# Altium schematic symbol library ISO-V3.SCHLIB: 118 symbols
Pins are listed as number, name and electrical type; pins without a type are passive.

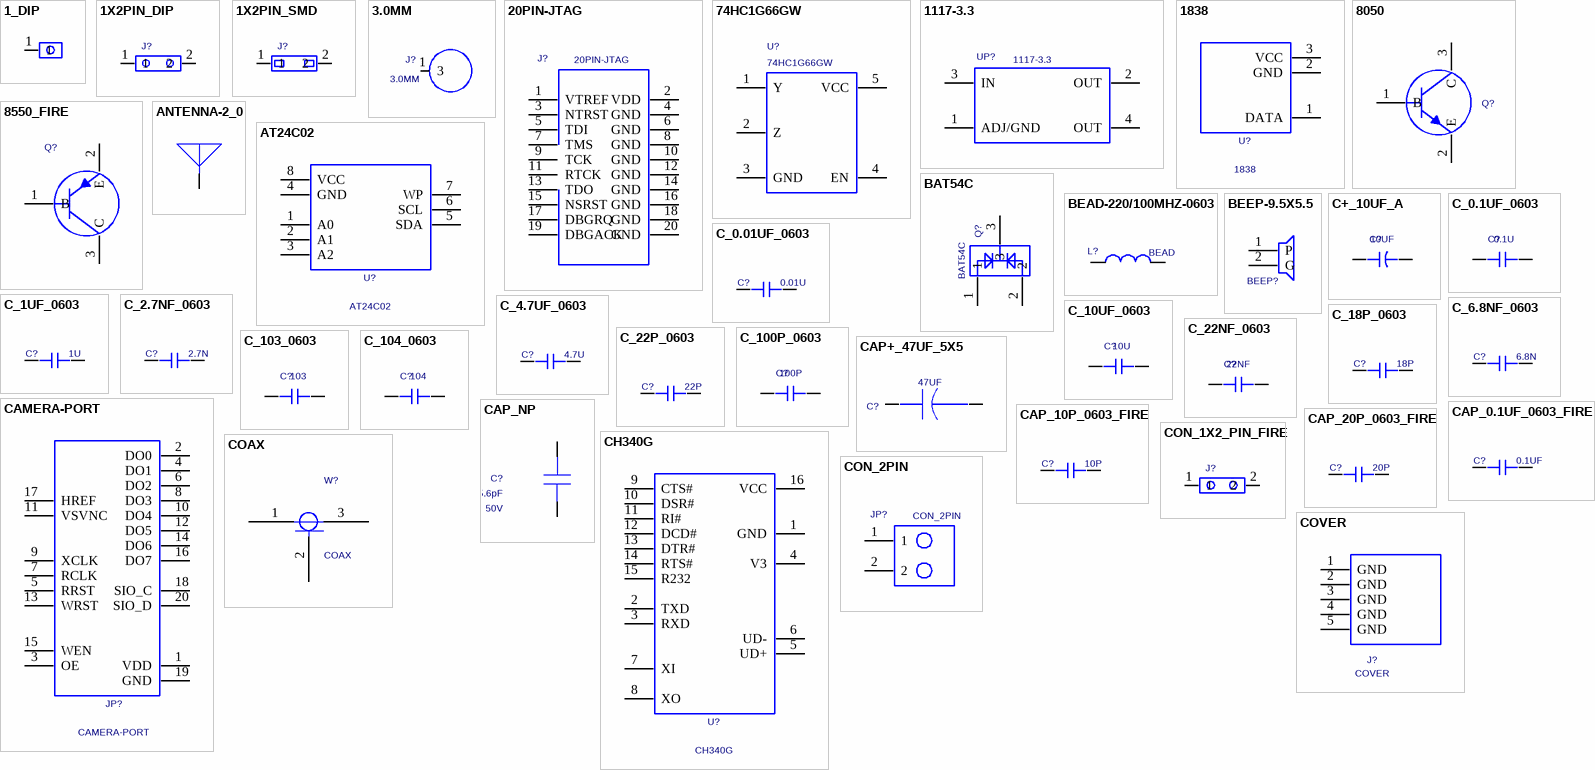
[diagram p0: symbols 1_DIP to COVER]

## 1_DIP
designator J?  (value not drawn)
PCB DECAL: 1_DIP
footprint 1_DIP
pins: 1

## 1X2PIN_DIP
designator J?  (value not drawn)
PCB DECAL: 1X2PIN_DIP
footprint 1X2PIN_DIP
pins: 1, 2

## 1X2PIN_SMD
designator J?  (value not drawn)
PCB DECAL: 1X2PIN_SMD
footprint 1X2PIN_SMD
pins: 1, 2

## 3.0MM
designator J?
PCB DECAL: 3.0MM-5
footprint 3.0MM-5
pins: 1 3

## 20PIN-JTAG
designator J?
20pin JTAG; Manufacturer #1: 20pin JTAG; Manufacturer #1 PN: 20pin JTAG; Value: 20pin JTAG
pins: 1 VTREF, 2 VDD, 3 NTRST, 4 GND, 5 TDI, 6 GND, 7 TMS, 8 GND, 9 TCK, 10 GND, 11 RTCK, 12 GND, 13 TDO, 14 GND, 15 NSRST, 16 GND, 17 DBGRQ, 18 GND, 19 DBGACK, 20 GND

## 74HC1G66GW
designator U?
PCB DECAL: SOT-353
footprint SOT-353
pins: 1 Y, 2 Z, 3 GND, 4 EN, 5 VCC

## 1117-3.3
designator UP?
SOT-223; Manufacturer #1: SPX; Manufacturer #1 PN: 1117-3.3
pins: 1 ADJ/GND, 2 OUT, 3 IN, 4 OUT

## 1838
designator U?
PCB DECAL: HDR1X3
footprint HDR1X3
pins: 1 DATA, 2 GND, 3 VCC

## 8050
designator Q?  (value not drawn)
NPN; PCB DECAL: SOT-23; Manufacturer #2: 8050
footprint SOT-23
pins: 1 B, 2 E, 3 C

## 8550_FIRE
designator Q?  (value not drawn)
NPN; PCB DECAL: SOT-23; Manufacturer #2: 8050
footprint SOT-23
pins: 1 B, 2 E, 3 C

## ANTENNA-2_0
designator U?  (value not drawn)
PCB DECAL: WIFI_ANTENNA; Source_Path: D:\FIRE_LAYOUT\ESP8266.DSN; Value: ANTENNA-2
footprint WIFI_ANTENNA
pins: 1

## AT24C02
designator U?
8 lead ssop,2k/2048bits; Manufacturer #1: ATMEL; Manufacturer #1 PN: AT24C02; Value: 2k/2048bits
pins: 1 A0, 2 A1, 3 A2, 4 GND, 5 SDA, 6 SCL, 7 WP, 8 VCC

## BAT54C
designator Q?
PCB DECAL: SOT-23; Value: BAT54C
footprint SOT-23
pins: 1, 2, 3

## BEAD-220/100MHZ-0603
designator L?  value BEAD  (hidden comment: BEAD-220/100MHZ-0603)
0603,BEAD; PCB DECAL: L0603; Manufacturer #1 PN: BEAD
footprint L0603
pins: 1, 2

## BEEP-9.5X5.5
designator BEEP?  (value not drawn)
PCB DECAL: BEEP-9.5X5.5
footprint BEEP-9.5X5.5
pins: 1 P, 2 G

## C+_10UF_A
designator C?  value 10UF  (hidden comment: C+_10UF_A)
PCB DECAL: AVX_B_3528-21
footprint AVX_B_3528-21
pins: 1 +, 2 -

## C_0.1UF_0603
designator C?  value 0.1U  (hidden comment: C_0.1UF_0603)
PCB DECAL: C_0603
footprint C_0603
pins: 1, 2

## C_0.01UF_0603
designator C?  value 0.01U  (hidden comment: C_0.01UF_0603)
PCB DECAL: C_0603
footprint C_0603
pins: 1, 2

## C_1UF_0603
designator C?  value 1U  (hidden comment: C_1UF_0603)
PCB DECAL: C_0603
footprint C_0603
pins: 1, 2

## C_2.7NF_0603
designator C?  value 2.7N  (hidden comment: C_2.7NF_0603)
PCB DECAL: C_0603
footprint C_0603
pins: 1, 2

## C_4.7UF_0603
designator C?  value 4.7U  (hidden comment: C_4.7UF_0603)
PCB DECAL: C_0603
footprint C_0603
pins: 1, 2

## C_6.8NF_0603
designator C?  value 6.8N  (hidden comment: C_6.8NF_0603)
PCB DECAL: C_0603
footprint C_0603
pins: 1, 2

## C_10UF_0603
designator C?  value 10U  (hidden comment: C_10UF_0603)
PCB DECAL: C_0603
footprint C_0603
pins: 1, 2

## C_18P_0603
designator C?  value 18P  (hidden comment: C_18P_0603)
PCB DECAL: C_0603
footprint C_0603
pins: 1, 2

## C_22NF_0603
designator C?  value 22NF  (hidden comment: C_22NF_0603)
PCB DECAL: C_0603
footprint C_0603
pins: 1, 2

## C_22P_0603
designator C?  value 22P  (hidden comment: C_22P_0603)
PCB DECAL: C_0603
footprint C_0603
pins: 1, 2

## C_100P_0603
designator C?  value 100P  (hidden comment: C_100P_0603)
PCB DECAL: C_0603
footprint C_0603
pins: 1, 2

## C_103_0603
designator C?  value 103  (hidden comment: C_103_0603)
PCB DECAL: C_0603
footprint C_0603
pins: 1, 2

## C_104_0603
designator C?  value 104  (hidden comment: C_104_0603)
PCB DECAL: C_0603
footprint C_0603
pins: 1, 2

## CAMERA-PORT
designator JP?
PCB DECAL: 20PIN_2.54_SMD_BOT; Manufacture 1 P/N: CAMERA-PORT
footprint 20PIN_2.54_SMD_BOT
pins: 1 VDD, 2 DO0, 3 OE, 4 DO1, 5 RRST, 6 DO2, 7 RCLK, 8 DO3, 9 XCLK, 10 DO4, 11 VSVNC, 12 DO5, 13 WRST, 14 DO6, 15 WEN, 16 DO7, 17 HREF, 18 SIO_C, 19 GND, 20 SIO_D

## CAP+_47UF_5X5
designator C?  value 47UF  (hidden comment: CAP+_47UF_5X5)
PCB DECAL: CAP+_47UF_5X5
footprint CAP+_47UF_5X5
pins: 1, 2

## CAP_0.1UF_0603_FIRE
designator C?  value 0.1UF  (hidden comment: CAP_0.1UF_0603_FIRE)
SURFACE MOUNT CAPACITOR 0.031 X 0.061 INCHES; PCB DECAL: CAP_0603_FIRE
footprint CAP_0603_FIRE
pins: 1, 2

## CAP_10P_0603_FIRE
designator C?  value 10P  (hidden comment: CAP_10P_0603_FIRE)
PCB DECAL: CAP_0603_FIRE
footprint CAP_0603_FIRE
pins: 1, 2

## CAP_20P_0603_FIRE
designator C?  value 20P  (hidden comment: CAP_20P_0603_FIRE)
PCB DECAL: CAP_0603_FIRE
footprint CAP_0603_FIRE
pins: 1, 2

## CAP_NP
designator C?  value 5.6pF  Voltage: 50V  (hidden comment: CAP_NP)
0603, X7R, 50V, 10%(K); Partname: 贴片电容  0603; Mfr: Fenghua; Mfr_Part_Number: 0603B104K500NT; Part_Number: CA100039-01; PCB DECAL: 0603; Spec: 100nF/50V 10%(K) X7R,0603B104K500NT(风华); Remarks: Checked; Gtech_Number: 50306031003K50V01; Source_Path: D:\CADENCELIB\CAPTURELIB\LC_PASSIVE.OLB; Datasheet: D:\CadenceLib\Partbase\Datasheet\Capacitor\Fenghua\LC503_Fenghua-X7R.pdf; Tolerance: ±10%; Availability: 30
footprint 0603
pins: 1, 2

## CH340G
designator U?
PCB DECAL: SOP16
footprint SOP16
pins: 1 GND, 2 TXD, 3 RXD, 4 V3, 5 UD+, 6 UD-, 7 XI, 8 XO, 9 CTS#, 10 DSR#, 11 RI#, 12 DCD#, 13 DTR#, 14 RTS#, 15 R232, 16 VCC

## COAX
designator W?
PCB DECAL: UFL-3; Source_Path: C:\CADENCE\SPB_16.6\TOOLS\CAPTURE\LIBRARY\CONNECTOR.OLB; Value: COAX
footprint UFL-3
pins: 1 CENTER_1, 2 SHIELD, 3 CENTER_2

## CON_1X2_PIN_FIRE
designator J?  (value not drawn)
1X2,pin,2.54mm; Manufacture 1 P/N: 1X2,pin,2.54mm; Value: 1X2,pin,2.54mm
pins: 1, 2

## CON_2PIN
designator JP?
2pin; Manufacturer #1 PN: 2pinduankou; Value: 2pinduankou; PCB DECAL: PWR-CON2
footprint PWR-CON2
pins: 1, 2

## COVER
designator J?
PCB DECAL: COVER
footprint COVER
pins: 1 GND, 2 GND, 3 GND, 4 GND, 5 GND

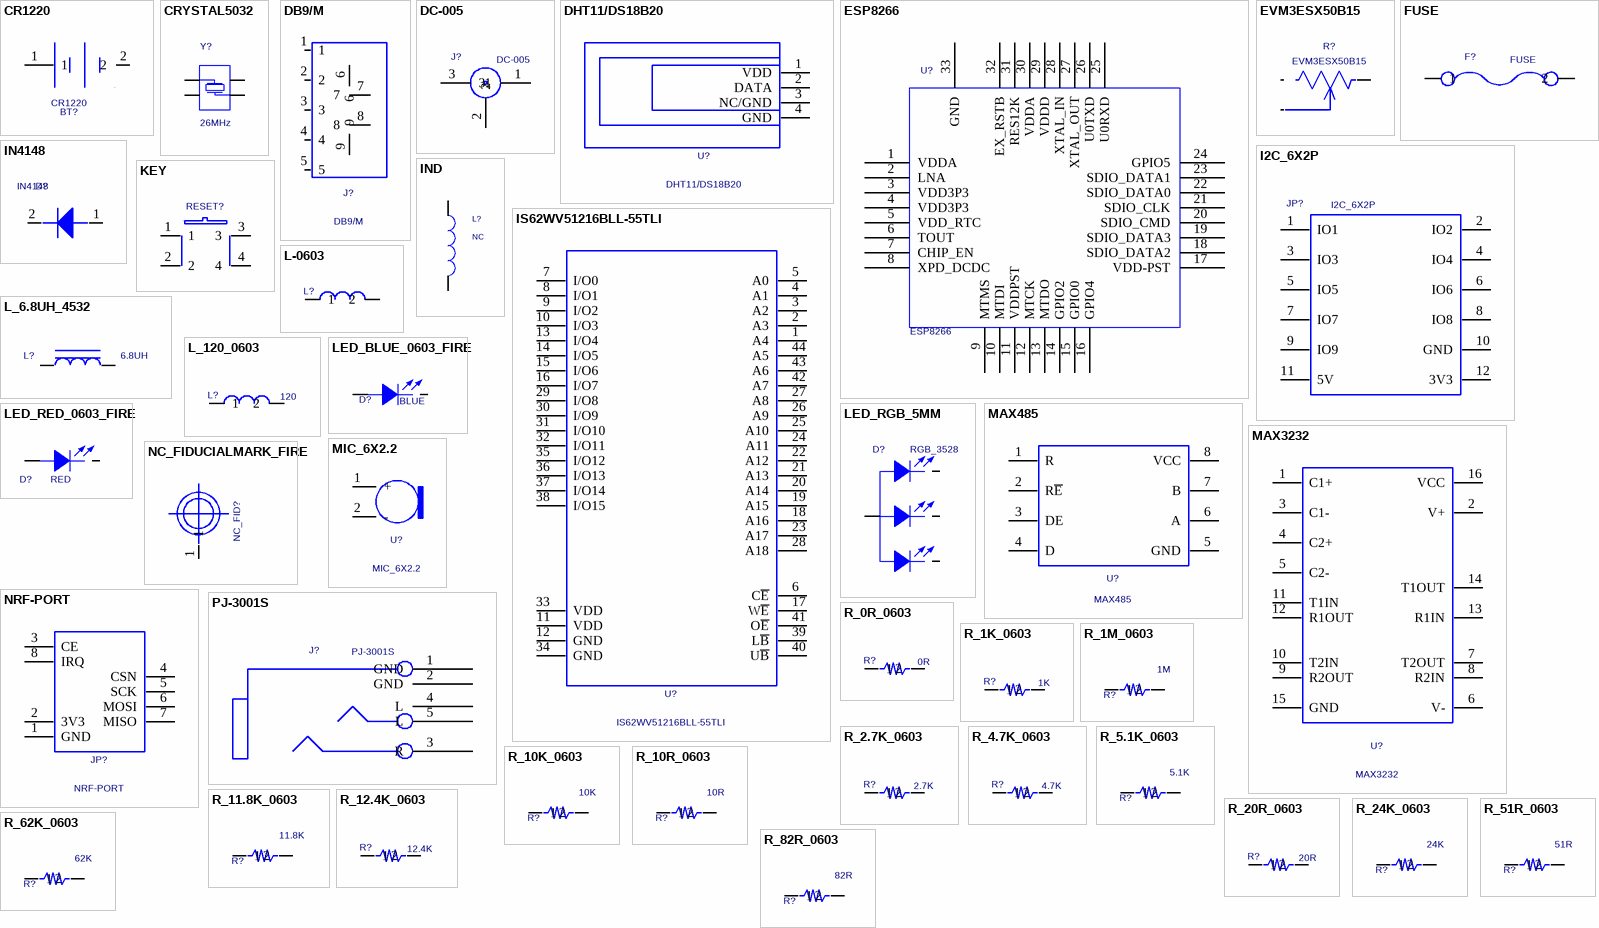
[diagram p1: symbols CR1220 to R_82R_0603]

## CR1220
designator BT?
PCB DECAL: BATERY
footprint BATERY
pins: 1, 2

## CRYSTAL5032
designator Y?  value 26MHz  (hidden comment: CRYSTAL5032)
27.12MHz,SMD5032,-30 to 85℃; Part_Number: OS200008-01; Mfr_Part_Number: E5SB27_1200F20G13; Mfr: Hosonic; Partname: 贴片晶振; PCB DECAL: NX3225SA; Spec: 27.12MHz,E5SB27_1200F20G13(Hosonic); Source_Path: D:\CADENCELIB\CAPTURELIB\LC_DISCRETE.OLB; Availability: 0
footprint NX3225SA
pins: 1, 2, 3, 4

## DB9/M
designator J?
PCB DECAL: DB9
footprint DB9
pins: 1, 2, 3, 4, 5, 6, 7, 8, 9

## DC-005
designator J?
PCB DECAL: DC-005
footprint DC-005
pins: 1, 2, 3

## DHT11/DS18B20
designator U?
Manufacture 1 P/N: DHT11/DS1302; PCB DECAL: HDR1X4
footprint HDR1X4
pins: 1 VDD, 2 DATA, 3 NC/GND, 4 GND

## ESP8266
designator U?
PCB DECAL: QFN32_1; Source_Path: C:\CADENCE\SPB_16.6\TOOLS\CAPTURE\LIBRARY\CAPSYM.OLB; Value: ESP8266
footprint QFN32_1
pins: 1 VDDA, 2 LNA, 3 VDD3P3, 4 VDD3P3, 5 VDD_RTC, 6 TOUT, 7 CHIP_EN, 8 XPD_DCDC, 9 MTMS, 10 MTDI, 11 VDDPST, 12 MTCK, 13 MTDO, 14 GPIO2, 15 GPIO0, 16 GPIO4, 17 VDD-PST, 18 SDIO_DATA2, 19 SDIO_DATA3, 20 SDIO_CMD, 21 SDIO_CLK, 22 SDIO_DATA0, 23 SDIO_DATA1, 24 GPIO5, 25 U0RXD, 26 U0TXD, 27 XTAL_OUT, 28 XTAL_IN, 29 VDDD, 30 VDDA, 31 RES12K, 32 EX_RSTB, 33 GND

## EVM3ESX50B15
designator R?
c; Value: EVM3ESX50B15-100K; PCB DECAL: R-3X3
footprint R-3X3
pins: 1, 2, 3

## FUSE
designator F?
PCB DECAL: FUSE_1812; Value: FUSE
footprint FUSE_1812
pins: 1, 2

## I2C_6X2P
designator JP?
PCB DECAL: 12PIN_2.54_SMD; Manufacturer #1 PN: I2C_6X2P; Value: I2C_6X2P
footprint 12PIN_2.54_SMD
pins: 1 IO1, 2 IO2, 3 IO3, 4 IO4, 5 IO5, 6 IO6, 7 IO7, 8 IO8, 9 IO9, 10 GND, 11 5V, 12 3V3

## IN4148
designator D?
PCB DECAL: DIODE_SOP; VALUE: IN4148
footprint DIODE_SOP
pins: 1 +, 2 -

## IND
designator L?  value NC  (hidden comment: IND)
1uH, 1.1R@245MHz, 245mA; Partname: 贴片电感; Mfr: TDK; Mfr_Part_Number: NLV25T-1R0J-PF; Part_Number: IN100085-01; PCB DECAL: 0603; Spec: 1uH,NLV25T-1R0J-PF(TDK); Tolerance: 5%; Resistance: 1.1R; Source_Path: D:\CADENCELIB\CAPTURELIB\LC_PASSIVE.OLB; Current: 245mA; Availability: 0
footprint 0603
pins: 1, 2

## IS62WV51216BLL-55TLI
designator U?
TSOP-II,2.5V - 3.6V, 512K x 16,55ns; Manufacturer #1 PN: IS62WV51216BLL-55TI; Manufacturer #1: ISSI; Value: IS62WV51216BLL-55TI; PCB DECAL: TSOP44-0.8MM; Tolerance: 55ns
footprint TSOP44-0.8MM
pins: 1 A4, 2 A3, 3 A2, 4 A1, 5 A0, 6 C~{E}, 7 I/O0, 8 I/O1, 9 I/O2, 10 I/O3, 11 VDD, 12 GND, 13 I/O4, 14 I/O5, 15 I/O6, 16 I/O7, 17 W~{E}, 18 A16, 19 A15, 20 A14, 21 A13, 22 A12, 23 A17, 24 A11, 25 A10, 26 A9, 27 A8, 28 A18, 29 I/O8, 30 I/O9, 31 I/O10, 32 I/O11, 33 VDD, 34 GND, 35 I/O12, 36 I/O13, 37 I/O14, 38 I/O15, 39 L~{B}, 40 U~{B}, 41 O~{E}, 42 A7, 43 A6, 44 A5

## KEY
designator RESET?  (value not drawn)
PCB DECAL: SW6.2/6.2-SMD; Manufacturer #1 PN: KEY
footprint SW6.2/6.2-SMD
pins: 1, 2, 3, 4

## L-0603
designator L?  (value not drawn)
PCB DECAL: 0603
footprint 0603
pins: 1, 2

## L_6.8UH_4532
designator L?  value 6.8UH  (hidden comment: L_6.8UH_4532)
PCB DECAL: GDCD4532
footprint GDCD4532
pins: 1, 2

## L_120_0603
designator L?  value 120  (hidden comment: L_120_0603)
PCB DECAL: R_0603
footprint R_0603
pins: 1, 2

## LED_BLUE_0603_FIRE
designator D?  value BLUE  (hidden comment: LED_BLUE_0603_FIRE)
blue,0603; PCB DECAL: LED_BLUE_0603_FIRE
footprint LED_BLUE_0603_FIRE
pins: A ANODE, K CATHODE

## LED_RED_0603_FIRE
designator D?  value RED  (hidden comment: LED_RED_0603_FIRE)
red,0805; PCB DECAL: LED_RED_0603_FIRE
footprint LED_RED_0603_FIRE
pins: A ANODE, K CATHODE

## LED_RGB_5MM
designator D?  value RGB_3528  (hidden comment: LED_RGB_5MM)
RGB; PCB DECAL: LED_RGB_5MM
footprint LED_RGB_5MM
pins: 1 G, 2 G, 3 R, 4 R

## MAX485
designator U?
PCB DECAL: MAX485
footprint MAX485
pins: 1 R, 2 R~{E}, 3 DE, 4 D, 5 GND, 6 A, 7 B, 8 VCC

## MAX3232
designator U?
PCB DECAL: MAX3232
footprint MAX3232
pins: 1 C1+, 2 V+, 3 C1-, 4 C2+, 5 C2-, 6 V-, 7 T2OUT, 8 R2IN, 9 R2OUT, 10 T2IN, 11 T1IN, 12 R1OUT, 13 R1IN, 14 T1OUT, 15 GND, 16 VCC

## MIC_6X2.2
designator U?
PCB DECAL: MIC_6X2.2
footprint MIC_6X2.2
pins: 1 +, 2 -

## NC_FIDUCIALMARK_FIRE
designator NC_FID?  (value not drawn)
FIDUCIAL MARK; Serial Number: NF; Priority: 1; PCB DECAL: NC_FIDUCIALMARK_FIRE
footprint NC_FIDUCIALMARK_FIRE
pins: 1

## NRF-PORT
designator JP?
PCB DECAL: 8PIN_2.54_SMD; Manufacture 1 P/N: NRF-PORT
footprint 8PIN_2.54_SMD
pins: 1 GND, 2 3V3, 3 CE, 4 CSN, 5 SCK, 6 MOSI, 7 MISO, 8 IRQ

## PJ-3001S
designator J?
Manufacturer #1 PN: PJ-313D; Value: PJ-313D; PCB DECAL: PJ-3001S
footprint PJ-3001S
pins: 1 GND, 2 GND, 3 R, 4 L, 5 L

## R_0R_0603
designator R?  value 0R  (hidden comment: R_0R_0603)
PCB DECAL: R_0603
footprint R_0603
pins: 1, 2

## R_1K_0603
designator R?  value 1K  (hidden comment: R_1K_0603)
PCB DECAL: R_0603
footprint R_0603
pins: 1, 2

## R_1M_0603
designator R?  value 1M  (hidden comment: R_1M_0603)
PCB DECAL: R_0603
footprint R_0603
pins: 1, 2

## R_2.7K_0603
designator R?  value 2.7K  (hidden comment: R_2.7K_0603)
PCB DECAL: R_0603
footprint R_0603
pins: 1, 2

## R_4.7K_0603
designator R?  value 4.7K  (hidden comment: R_4.7K_0603)
PCB DECAL: R_0603
footprint R_0603
pins: 1, 2

## R_5.1K_0603
designator R?  value 5.1K  (hidden comment: R_5.1K_0603)
PCB DECAL: R_0603
footprint R_0603
pins: 1, 2

## R_10K_0603
designator R?  value 10K  (hidden comment: R_10K_0603)
PCB DECAL: R_0603
footprint R_0603
pins: 1, 2

## R_10R_0603
designator R?  value 10R  (hidden comment: R_10R_0603)
PCB DECAL: R_0603
footprint R_0603
pins: 1, 2

## R_11.8K_0603
designator R?  value 11.8K  (hidden comment: R_11.8K_0603)
PCB DECAL: R_0603
footprint R_0603
pins: 1, 2

## R_12.4K_0603
designator R?  value 12.4K  (hidden comment: R_12.4K_0603)
PCB DECAL: R_0603
footprint R_0603
pins: 1, 2

## R_20R_0603
designator R?  value 20R  (hidden comment: R_20R_0603)
PCB DECAL: R_0603
footprint R_0603
pins: 1, 2

## R_24K_0603
designator R?  value 24K  (hidden comment: R_24K_0603)
PCB DECAL: R_0603
footprint R_0603
pins: 1, 2

## R_51R_0603
designator R?  value 51R  (hidden comment: R_51R_0603)
PCB DECAL: R_0603
footprint R_0603
pins: 1, 2

## R_62K_0603
designator R?  value 62K  (hidden comment: R_62K_0603)
PCB DECAL: R_0603
footprint R_0603
pins: 1, 2

## R_82R_0603
designator R?  value 82R  (hidden comment: R_82R_0603)
PCB DECAL: R_0603
footprint R_0603
pins: 1, 2

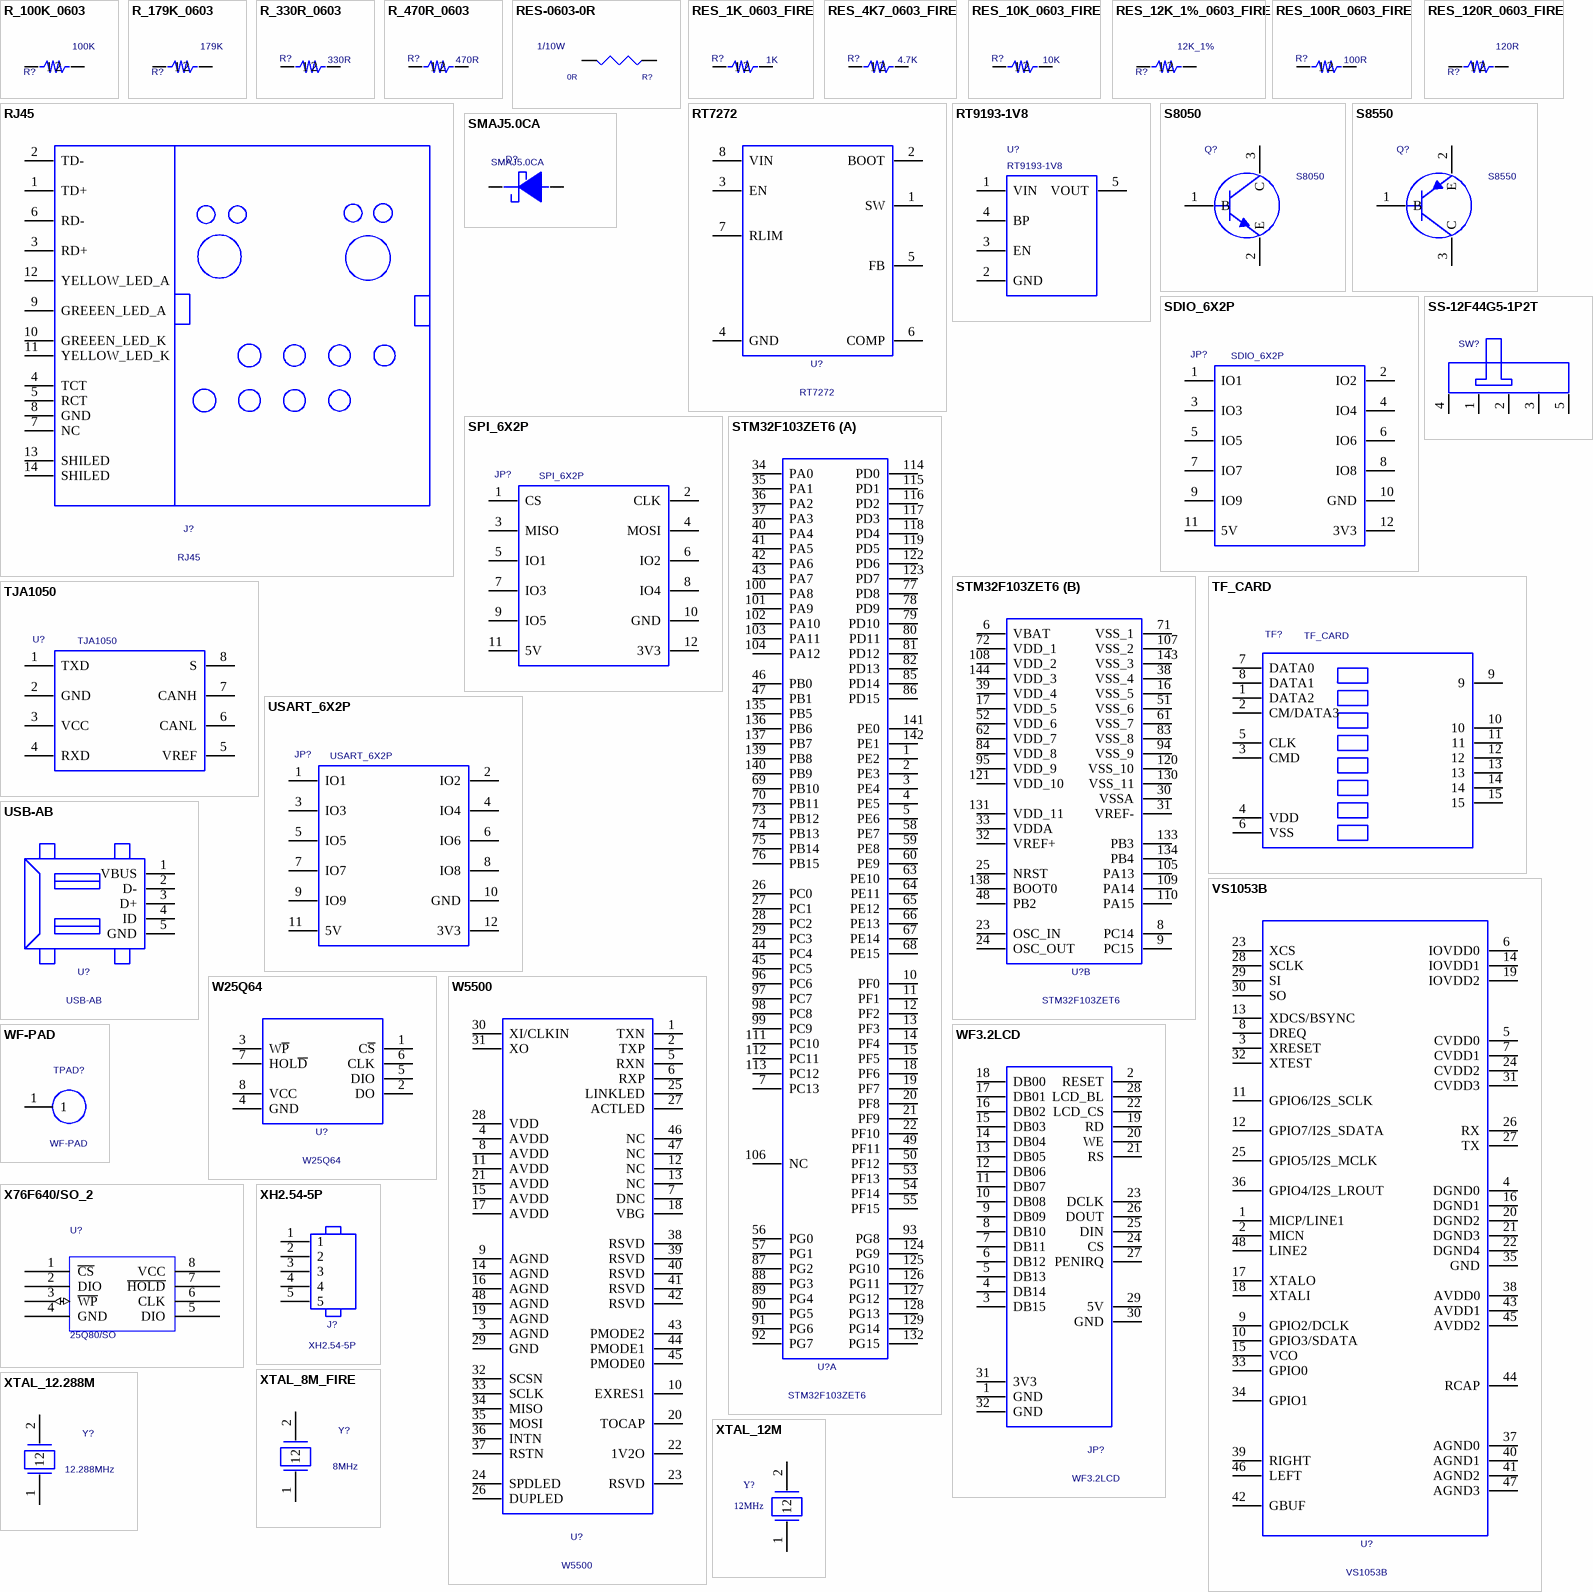
[diagram p2: symbols R_100K_0603 to XTAL_12M]

## R_100K_0603
designator R?  value 100K  (hidden comment: R_100K_0603)
PCB DECAL: R_0603
footprint R_0603
pins: 1, 2

## R_179K_0603
designator R?  value 179K  (hidden comment: R_179K_0603)
PCB DECAL: R_0603
footprint R_0603
pins: 1, 2

## R_330R_0603
designator R?  value 330R  (hidden comment: R_330R_0603)
PCB DECAL: R_0603
footprint R_0603
pins: 1, 2

## R_470R_0603
designator R?  value 470R  (hidden comment: R_470R_0603)
PCB DECAL: R_0603
footprint R_0603
pins: 1, 2

## RES-0603-0R
designator R?  value 0R  Power: 1/10W  (hidden comment: RES-0603-0R)
0603, 50V, 1/10W, 5%; Partname: 贴片电阻 0603; Part_Number: RE200045-01; Mfr_Part_Number: RS03K104JT; Mfr: Fenghua; PCB DECAL: 0603; Spec: 0R,1/10W,5%,RS03K104JT(风华); Remarks: Checked; Gtech_Number: 50106031003JR1001; Source_Path: D:\CADENCELIB\CAPTURELIB\LC_PASSIVE.OLB; Availability: 0
footprint 0603
pins: 1, 2

## RES_1K_0603_FIRE
designator R?  value 1K  (hidden comment: RES_1K_0603_FIRE)
0402; Manufacture 1: SUPEROHM; Tolerance: +-5%; PCB DECAL: RES_0603_FIRE; Assembly: SMD
footprint RES_0603_FIRE
pins: 1, 2

## RES_4K7_0603_FIRE
designator R?  value 4.7K  (hidden comment: RES_4K7_0603_FIRE)
0402; Manufacture 1: SUPEROHM; Tolerance: +-5%; PCB DECAL: RES_0603_FIRE
footprint RES_0603_FIRE
pins: 1, 2

## RES_10K_0603_FIRE
designator R?  value 10K  (hidden comment: RES_10K_0603_FIRE)
SURFACE MOUNT RESISTOR 0.031 X 0.061 INCHES, 1/10W; PCB DECAL: RES_0603_FIRE; Assembly: SMD
footprint RES_0603_FIRE
pins: 1, 2

## RES_12K_1%_0603_FIRE
designator R?  value 12K_1%  (hidden comment: RES_12K_1%_0603_FIRE)
0402; Manufacture 1: SUPEROHM; Tolerance: +-1%; PCB DECAL: RES_0603_FIRE; Assembly: SMD
footprint RES_0603_FIRE
pins: 1, 2

## RES_100R_0603_FIRE
designator R?  value 100R  (hidden comment: RES_100R_0603_FIRE)
0402; Manufacture 1: SUPEROHM; Tolerance: +-5%; PCB DECAL: RES_0603_FIRE; Assembly: SMD
footprint RES_0603_FIRE
pins: 1, 2

## RES_120R_0603_FIRE
designator R?  value 120R  (hidden comment: RES_120R_0603_FIRE)
120R(0603); Assembly: SMD; PCB DECAL: RES_0603_FIRE
footprint RES_0603_FIRE
pins: 1, 2

## RJ45
designator J?
PCB DECAL: RJ45
footprint RJ45
pins: 1 TD+, 2 TD-, 3 RD+, 4 TCT, 5 RCT, 6 RD-, 7 NC, 8 GND, 9 GREEEN_LED_A, 10 GREEEN_LED_K, 11 YELLOW_LED_K, 12 YELLOW_LED_A, 13 SHILED, 14 SHILED

## RT7272
designator U?
PCB DECAL: RT7272
footprint RT7272
pins: 1 SW, 2 BOOT, 3 EN, 4 GND, 5 FB, 6 COMP, 7 RLIM, 8 VIN

## RT9193-1V8
designator U?
PCB DECAL: SOT23-5
footprint SOT23-5
pins: 1 VIN (power), 2 GND (power), 3 EN, 4 BP, 5 VOUT (power)

## S8050
designator Q?
NPN; PCB DECAL: SOT-23; Manufacturer #2: 8050
footprint SOT-23
pins: 1 B, 2 E, 3 C

## S8550
designator Q?
NPN; PCB DECAL: SOT-23; Manufacturer #2: 8050
footprint SOT-23
pins: 1 B, 2 E, 3 C

## SDIO_6X2P
designator JP?
I2C_6X2P; PCB DECAL: 12PIN_2.54_SMD; Manufacturer #1 PN: I2C_6X2P; Value: I2C_6X2P
footprint 12PIN_2.54_SMD
pins: 1 IO1, 2 IO2, 3 IO3, 4 IO4, 5 IO5, 6 IO6, 7 IO7, 8 IO8, 9 IO9, 10 GND, 11 5V, 12 3V3

## SMAJ5.0CA
designator D?
PCB DECAL: DO-214; Value: SMAJ5.0CA
footprint DO-214
pins: 1 +, 2 -

## SPI_6X2P
designator JP?
PCB DECAL: 12PIN_2.54_SMD; Manufacturer #1 PN: SPI_6X2P; Value: SPI_6X2P
footprint 12PIN_2.54_SMD
pins: 1 CS, 2 CLK, 3 MISO, 4 MOSI, 5 IO1, 6 IO2, 7 IO3, 8 IO4, 9 IO5, 10 GND, 11 5V, 12 3V3

## SS-12F44G5-1P2T
designator SW?  (value not drawn)
PCB DECAL: SS-12F44G5-1P2T
footprint SS-12F44G5-1P2T
pins: 1, 2, 3, 4, 5

## STM32F103ZET6
designator U?
Cortex-M3,64KRAM,512KFLASH,; Manufacturer #1 PN: STM32F103ZET6/LQPF144; Manufacturer #1: STMicroelectronics; PCB DECAL: LQFP144_ZET6
footprint LQFP144_ZET6
part A pins: 1 PE2, 2 PE3, 3 PE4, 4 PE5, 5 PE6, 7 PC13, 10 PF0, 11 PF1, 12 PF2, 13 PF3, 14 PF4, 15 PF5, 18 PF6, 19 PF7, 20 PF8, 21 PF9, 22 PF10, 26 PC0, 27 PC1, 28 PC2, 29 PC3, 34 PA0, 35 PA1, 36 PA2, 37 PA3, 40 PA4, 41 PA5, 42 PA6, 43 PA7, 44 PC4, 45 PC5, 46 PB0, 47 PB1, 49 PF11, 50 PF12, 53 PF13, 54 PF14, 55 PF15, 56 PG0, 57 PG1, 58 PE7, 59 PE8, 60 PE9, 63 PE10, 64 PE11, 65 PE12, 66 PE13, 67 PE14, 68 PE15, 69 PB10, 70 PB11, 73 PB12, 74 PB13, 75 PB14, 76 PB15, 77 PD8, 78 PD9, 79 PD10, 80 PD11, 81 PD12, 82 PD13, 85 PD14, 86 PD15, 87 PG2, 88 PG3, 89 PG4, 90 PG5, 91 PG6, 92 PG7, 93 PG8, 96 PC6, 97 PC7, 98 PC8, 99 PC9, 100 PA8, 101 PA9, 102 PA10, 103 PA11, 104 PA12, 106 NC, 111 PC10, 112 PC11, 113 PC12, 114 PD0, 115 PD1, 116 PD2, 117 PD3, 118 PD4, 119 PD5, 122 PD6, 123 PD7, 124 PG9, 125 PG10, 126 PG11, 127 PG12, 128 PG13, 129 PG14, 132 PG15, 135 PB5, 136 PB6, 137 PB7, 139 PB8, 140 PB9, 141 PE0, 142 PE1
part B pins: 6 VBAT, 8 PC14, 9 PC15, 16 VSS_5, 17 VDD_5, 23 OSC_IN, 24 OSC_OUT, 25 NRST, 30 VSSA, 31 VREF-, 32 VREF+, 33 VDDA, 38 VSS_4, 39 VDD_4, 48 PB2, 51 VSS_6, 52 VDD_6, 61 VSS_7, 62 VDD_7, 71 VSS_1, 72 VDD_1, 83 VSS_8, 84 VDD_8, 94 VSS_9, 95 VDD_9, 105 PA13, 107 VSS_2, 108 VDD_2, 109 PA14, 110 PA15, 120 VSS_10, 121 VDD_10, 130 VSS_11, 131 VDD_11, 133 PB3, 134 PB4, 138 BOOT0, 143 VSS_3, 144 VDD_3

## TF_CARD
designator TF?
Manufacturer #1 PN: MicroSD座/手机卡存储卡座; PCB DECAL: TF_CARD
footprint TF_CARD
pins: 1 DATA2, 2 CM/DATA3, 3 CMD, 4 VDD, 5 CLK, 6 VSS, 7 DATA0, 8 DATA1, 9, 10, 11, 12, 13, 14, 15

## TJA1050
designator U?
can,sop8; Manufacturer #1 PN: TJA1050; Value: TJA1050
pins: 1 TXD, 2 GND, 3 VCC, 4 RXD, 5 VREF, 6 CANL, 7 CANH, 8 S

## USART_6X2P
designator JP?
I2C_6X2P; PCB DECAL: 12PIN_2.54_SMD; Manufacturer #1 PN: I2C_6X2P; Value: I2C_6X2P
footprint 12PIN_2.54_SMD
pins: 1 IO1, 2 IO2, 3 IO3, 4 IO4, 5 IO5, 6 IO6, 7 IO7, 8 IO8, 9 IO9, 10 GND, 11 5V, 12 3V3

## USB-AB
designator U?
pins: 1 VBUS, 2 D-, 3 D+, 4 ID, 5 GND

## VS1053B
designator U?
PCB DECAL: LQFP48_7X7X05P
footprint LQFP48_7X7X05P
pins: 1 MICP/LINE1, 2 MICN, 3 XRESET, 4 DGND0, 5 CVDD0, 6 IOVDD0, 7 CVDD1, 8 DREQ, 9 GPIO2/DCLK, 10 GPIO3/SDATA, 11 GPIO6/I2S_SCLK, 12 GPIO7/I2S_SDATA, 13 XDCS/BSYNC, 14 IOVDD1, 15 VCO, 16 DGND1, 17 XTALO, 18 XTALI, 19 IOVDD2, 20 DGND2, 21 DGND3, 22 DGND4, 23 XCS, 24 CVDD2, 25 GPIO5/I2S_MCLK, 26 RX, 27 TX, 28 SCLK, 29 SI, 30 SO, 31 CVDD3, 32 XTEST, 33 GPIO0, 34 GPIO1, 35 GND, 36 GPIO4/I2S_LROUT, 37 AGND0, 38 AVDD0, 39 RIGHT, 40 AGND1, 41 AGND2, 42 GBUF, 43 AVDD1, 44 RCAP, 45 AVDD2, 46 LEFT, 47 AGND3, 48 LINE2

## W25Q64
designator U?
PCB DECAL: SO8WB
footprint SO8WB
pins: 1 C~{S}, 2 DO, 3 W~{P}, 4 GND, 5 DIO, 6 CLK, 7 HOL~{D}, 8 VCC

## W5500
designator U?
PCB DECAL: W5500
footprint W5500
pins: 1 TXN, 2 TXP, 3 AGND, 4 AVDD, 5 RXN, 6 RXP, 7 DNC, 8 AVDD, 9 AGND, 10 EXRES1, 11 AVDD, 12 NC, 13 NC, 14 AGND, 15 AVDD, 16 AGND, 17 AVDD, 18 VBG, 19 AGND, 20 TOCAP, 21 AVDD, 22 1V2O, 23 RSVD, 24 SPDLED, 25 LINKLED, 26 DUPLED, 27 ACTLED, 28 VDD, 29 GND, 30 XI/CLKIN, 31 XO, 32 SCSN, 33 SCLK, 34 MISO, 35 MOSI, 36 INTN, 37 RSTN, 38 RSVD, 39 RSVD, 40 RSVD, 41 RSVD, 42 RSVD, 43 PMODE2, 44 PMODE1, 45 PMODE0, 46 NC, 47 NC, 48 AGND

## WF3.2LCD
designator JP?
320*240,ILI9341,touch; Manufacturer #1: Wild Fire Team; PCB DECAL: 2X16X2.54MM; Manufacturer #1 PN: WF3.2LCD
footprint 2X16X2.54MM
pins: 1 GND, 2 RESET, 3 DB15, 4 DB14, 5 DB13, 6 DB12, 7 DB11, 8 DB10, 9 DB09, 10 DB08, 11 DB07, 12 DB06, 13 DB05, 14 DB04, 15 DB03, 16 DB02, 17 DB01, 18 DB00, 19 RD, 20 WE, 21 RS, 22 LCD_CS, 23 DCLK, 24 CS, 25 DIN, 26 DOUT, 27 PENIRQ, 28 LCD_BL, 29 5V, 30 GND, 31 3V3, 32 GND

## WF-PAD
designator TPAD?
pins: 1

## X76F640/SO_2
designator U?  value 25Q80/SO  (hidden comment: X76F640/SO_2)
PCB DECAL: SOP8; Source_Path: D:\FIRE_LAYOUT\ESP8266.DSN
footprint SOP8
pins: 1 ~{CS}, 2 DIO, 3 ~{WP} (io), 4 GND, 5 DIO, 6 CLK, 7 ~{HOLD}, 8 VCC

## XH2.54-5P
designator J?
PCB DECAL: XH2.54-5P
footprint XH2.54-5P
pins: 1, 2, 3, 4, 5

## XTAL_8M_FIRE
designator Y?  value 8MHz  (hidden comment: XTAL_8M_FIRE)
CRYSTAL; PCB DECAL: CRYSTAL_SMD_FIRE
footprint CRYSTAL_SMD_FIRE
pins: 1, 2

## XTAL_12.288M
designator Y?  value 12.288MHz  (hidden comment: XTAL_12.288M)
PCB DECAL: CRYSTAL_SMD_FIRE
footprint CRYSTAL_SMD_FIRE
pins: 1, 2

## XTAL_12M
designator Y?  value 12MHz  (hidden comment: XTAL_12M)
PCB DECAL: XTAL_SMD
footprint XTAL_SMD
pins: 1, 2

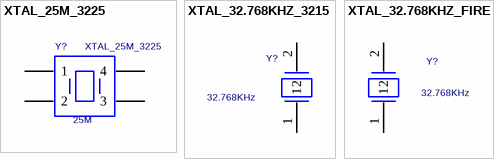
[diagram p3: symbols XTAL_25M_3225 to XTAL_32.768KHZ_FIRE]

## XTAL_25M_3225
designator Y?  value 25M
PCB DECAL: 3225
footprint 3225
pins: 1, 2, 3, 4

## XTAL_32.768KHZ_3215
designator Y?  value 32.768KHz  (hidden comment: XTAL_32.768KHZ_3215)
CRYSTAL; PCB DECAL: 3215
footprint 3215
pins: 1, 2

## XTAL_32.768KHZ_FIRE
designator Y?  value 32.768KHz  (hidden comment: XTAL_32.768KHZ_FIRE)
CRYSTAL; PCB DECAL: CRYS-3X8
footprint CRYS-3X8
pins: 1, 2